# Altium integrated library TI_Logic_Flip-Flop,Latch,Register.IntLib: 2598 symbols (part 87 of 122)
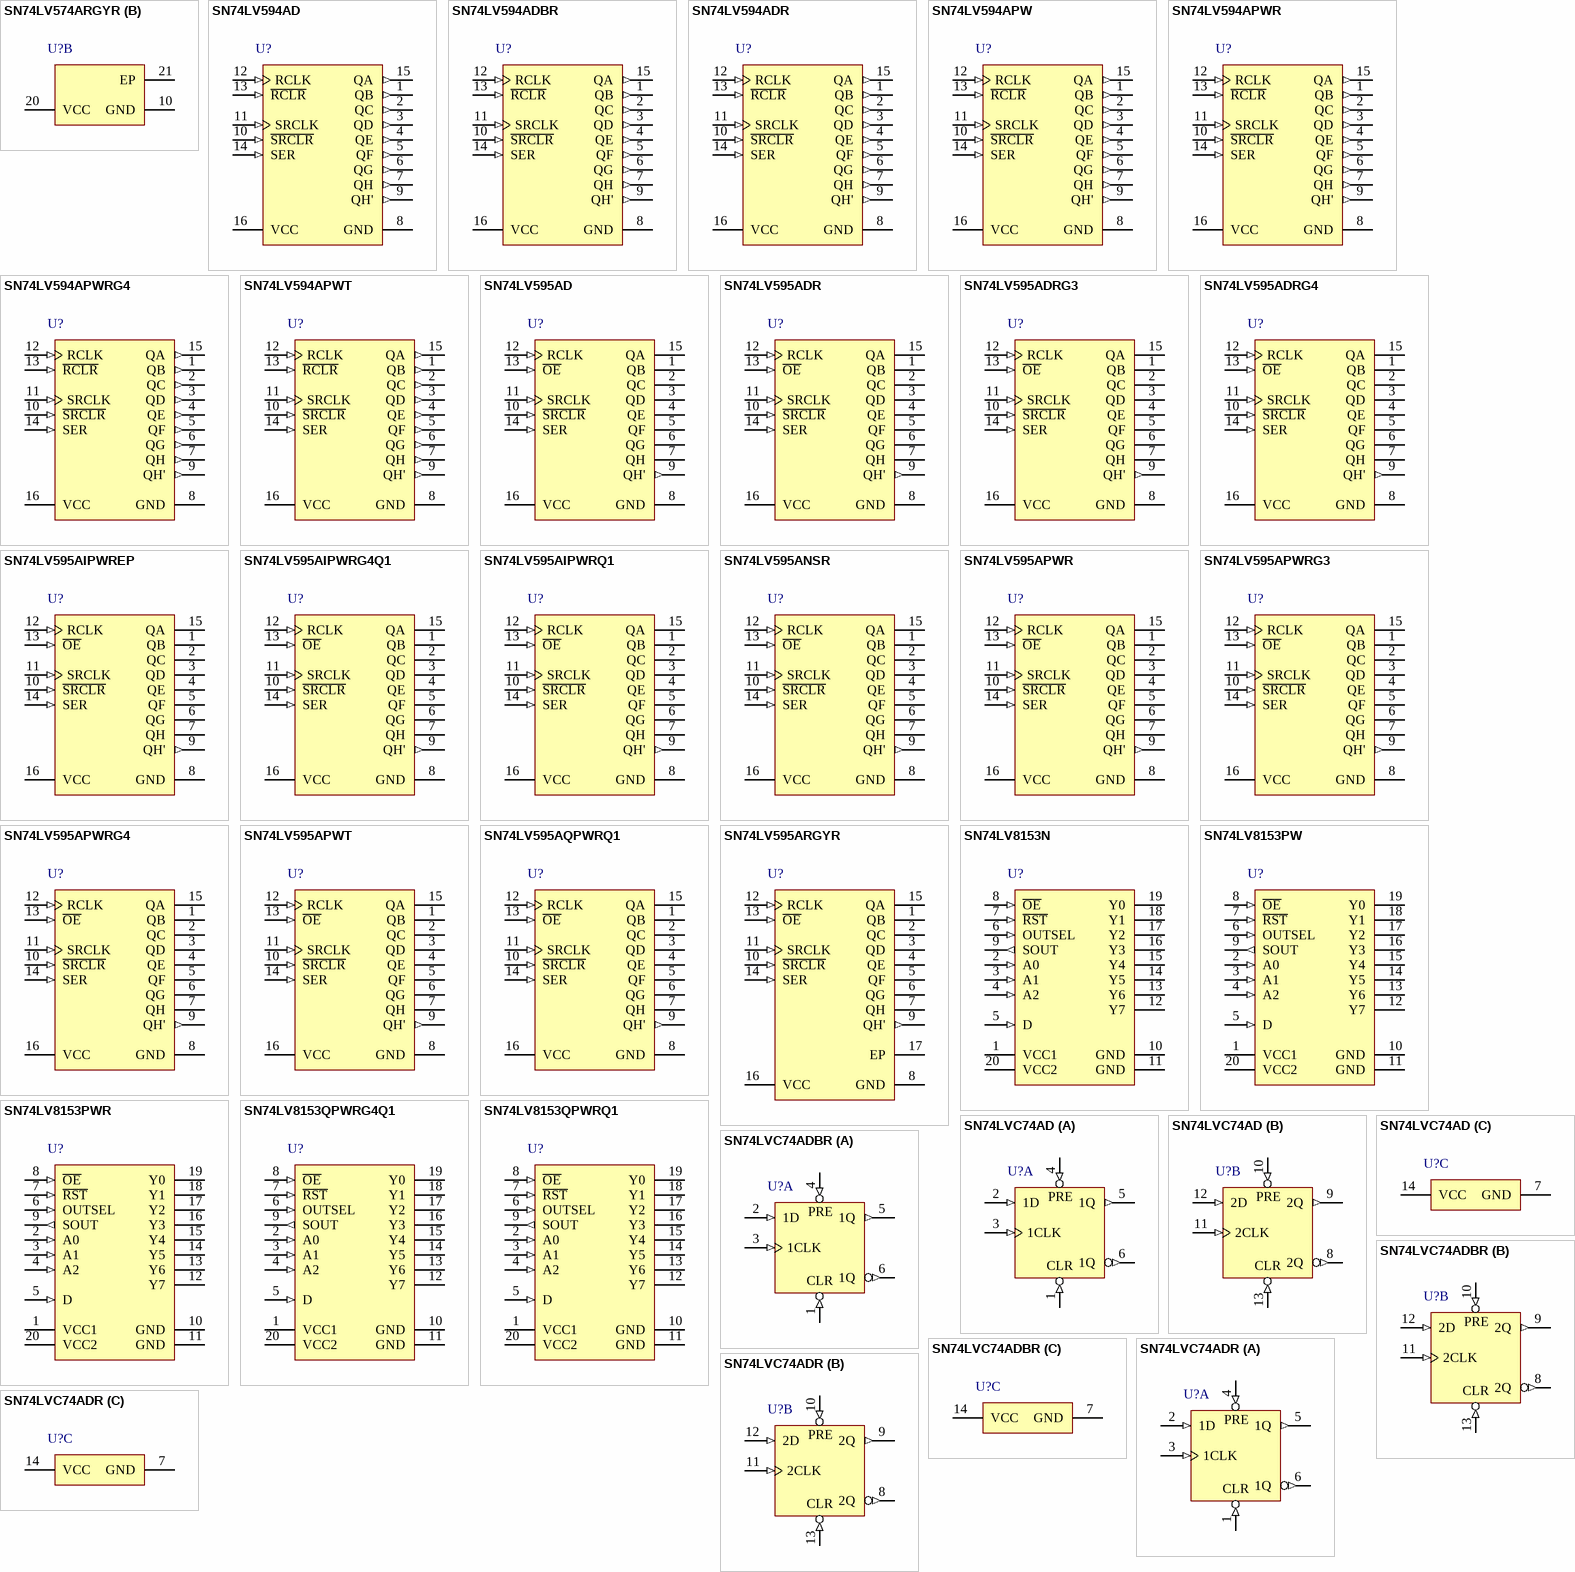
[diagram p225: symbols SN74LV574ARGYR to SN74LVC74ADR]

## SN74LV595AIPWREP
designator U?
Enhanced Product 8-Bit Shift Registers With 3-State Output Registers, PW0016A, LARGE T&R; Generic Part Number: SN74LV595A-EP; Manufacturer: Texas Instruments; PartNumber: SN74LV595AIPWREP; Technology Family: LV-A; VCC(Min)(V): 2; VCC(Max)(V): 5.5; No. of Outputs: 9; Voltage(Nom)(V): 2.5, 3.3, 5; F @ Nom Voltage(Max)(Mhz): 70; ICC @ Nom Voltage(Max)(mA): 0.02; tpd @ Nom Voltage(Max)(ns): 25.5, 18.5, 10.5; Output Drive (IOL/IOH)(Max)(mA): 50/-50; Input Type: CMOS; 3-State Output: Yes; Rating: HiRel Enhanced Product; Bits: 8; DatasheetVersion: SCLS568B; PackageReference: PW0016A; Output Type: CMOS; Operating Temperature Range(C): -40 to 85; Code_JEDEC: MO-153; ComponentLink1Description: Manufacturer URL; ComponentLink1URL: http://www.ti.com/; ComponentLink2Description: Datasheet; ComponentLink2URL: http://www.ti.com/lit/ds/symlink/sn74lv595a-ep.pdf; ComponentLink3Description: Package Specification; ComponentLink3URL: http://www.ti.com/lit/ml/mpds361/mpds361.pdf
footprint PW0016A_N (SOP, 16-Leads, Body 5.1x4.5mm, Pitch 0.65mm, IPC Medium Density)
footprint PW0016A_M (SOP, 16-Leads, Body 5.1x4.5mm, Pitch 0.65mm, IPC Low Density)
footprint PW0016A_L (SOP, 16-Leads, Body 5.1x4.5mm, Pitch 0.65mm, IPC High Density)
pins: 1 QB (hiz) "QB Output", 2 QC (hiz) "QC Output", 3 QD (hiz) "QD Output", 4 QE (hiz) "QE Output", 5 QF (hiz) "QF Output", 6 QG (hiz) "QG Output", 7 QH (hiz) "QH Output", 8 GND (power) "Ground Pin", 9 QH' (out) "QH' Output", 10 ~{SRCLR} (in) "S\R\C\L\R\ Input", 11 SRCLK (in) "SRCLK Input", 12 RCLK (in) "RCLK Input", 13 ~{OE} (in) "Output Enable Pin", 14 SER (in) "SER Input", 15 QA (hiz) "QA Output", 16 VCC (power) "Power Pin"

## SN74LV595AIPWRG4Q1
designator U?
Automotive Catalog 8-Bit Shift Registers With 3-State Output Registers, PW0016A, LARGE T&R; Generic Part Number: SN74LV595A-Q1; Manufacturer: Texas Instruments; PartNumber: SN74LV595AIPWRG4Q1; Technology Family: LV-A; VCC(Min)(V): 2; VCC(Max)(V): 5.5; No. of Outputs: 9; Voltage(Nom)(V): 2.5, 3.3, 5; F @ Nom Voltage(Max)(Mhz): 70; ICC @ Nom Voltage(Max)(mA): 0.02; tpd @ Nom Voltage(Max)(ns): 24.1, 20.2, 14.1; Output Drive (IOL/IOH)(Max)(mA): 50/-50; Input Type: CMOS; 3-State Output: Yes; Bits: 8; DatasheetVersion: SCLS539D; PackageReference: PW0016A; Output Type: CMOS; Rating: Automotive; Operating Temperature Range(C): -40 to 125, -40 to 85; Code_JEDEC: MO-153; ComponentLink1Description: Manufacturer URL; ComponentLink1URL: http://www.ti.com/; ComponentLink2Description: Datasheet; ComponentLink2URL: http://www.ti.com/lit/ds/symlink/sn74lv595a-q1.pdf; ComponentLink3Description: Package Specification; ComponentLink3URL: http://www.ti.com/lit/ml/mpds361/mpds361.pdf
footprint PW0016A_N (SOP, 16-Leads, Body 5.1x4.5mm, Pitch 0.65mm, IPC Medium Density)
footprint PW0016A_M (SOP, 16-Leads, Body 5.1x4.5mm, Pitch 0.65mm, IPC Low Density)
footprint PW0016A_L (SOP, 16-Leads, Body 5.1x4.5mm, Pitch 0.65mm, IPC High Density)
pins: 1 QB (hiz) "QB Output", 2 QC (hiz) "QC Output", 3 QD (hiz) "QD Output", 4 QE (hiz) "QE Output", 5 QF (hiz) "QF Output", 6 QG (hiz) "QG Output", 7 QH (hiz) "QH Output", 8 GND (power) "Ground Pin", 9 QH' (out) "QH' Output", 10 ~{SRCLR} (in) "S\R\C\L\R\ Input", 11 SRCLK (in) "SRCLK Input", 12 RCLK (in) "RCLK Input", 13 ~{OE} (in) "Output Enable Pin", 14 SER (in) "SER Input", 15 QA (hiz) "QA Output", 16 VCC (power) "Power Pin"

## SN74LV595AIPWRQ1
designator U?
Automotive Catalog 8-Bit Shift Registers With 3-State Output Registers, PW0016A, LARGE T&R; Generic Part Number: SN74LV595A-Q1; Manufacturer: Texas Instruments; PartNumber: SN74LV595AIPWRQ1; Technology Family: LV-A; VCC(Min)(V): 2; VCC(Max)(V): 5.5; No. of Outputs: 9; Voltage(Nom)(V): 2.5, 3.3, 5; F @ Nom Voltage(Max)(Mhz): 70; ICC @ Nom Voltage(Max)(mA): 0.02; tpd @ Nom Voltage(Max)(ns): 24.1, 20.2, 14.1; Output Drive (IOL/IOH)(Max)(mA): 50/-50; Input Type: CMOS; 3-State Output: Yes; Bits: 8; DatasheetVersion: SCLS539D; PackageReference: PW0016A; Output Type: CMOS; Rating: Automotive; Operating Temperature Range(C): -40 to 125, -40 to 85; Code_JEDEC: MO-153; ComponentLink1Description: Manufacturer URL; ComponentLink1URL: http://www.ti.com/; ComponentLink2Description: Datasheet; ComponentLink2URL: http://www.ti.com/lit/ds/symlink/sn74lv595a-q1.pdf; ComponentLink3Description: Package Specification; ComponentLink3URL: http://www.ti.com/lit/ml/mpds361/mpds361.pdf
footprint PW0016A_N (SOP, 16-Leads, Body 5.1x4.5mm, Pitch 0.65mm, IPC Medium Density)
footprint PW0016A_M (SOP, 16-Leads, Body 5.1x4.5mm, Pitch 0.65mm, IPC Low Density)
footprint PW0016A_L (SOP, 16-Leads, Body 5.1x4.5mm, Pitch 0.65mm, IPC High Density)
pins: 1 QB (hiz) "QB Output", 2 QC (hiz) "QC Output", 3 QD (hiz) "QD Output", 4 QE (hiz) "QE Output", 5 QF (hiz) "QF Output", 6 QG (hiz) "QG Output", 7 QH (hiz) "QH Output", 8 GND (power) "Ground Pin", 9 QH' (out) "QH' Output", 10 ~{SRCLR} (in) "S\R\C\L\R\ Input", 11 SRCLK (in) "SRCLK Input", 12 RCLK (in) "RCLK Input", 13 ~{OE} (in) "Output Enable Pin", 14 SER (in) "SER Input", 15 QA (hiz) "QA Output", 16 VCC (power) "Power Pin"

## SN74LV595ANSR
designator U?
8-Bit Shift Registers With 3-State Output Registers, NS0016A, LARGE T&R; Generic Part Number: SN74LV595A; Manufacturer: Texas Instruments; PartNumber: SN74LV595ANSR; Technology Family: LV-A; VCC(Min)(V): 2; VCC(Max)(V): 5.5; No. of Outputs: 9; Voltage(Nom)(V): 2.5, 3.3, 5; F @ Nom Voltage(Max)(Mhz): 70; ICC @ Nom Voltage(Max)(mA): 0.02; tpd @ Nom Voltage(Max)(ns): 25.5, 18.5, 10.5; Output Drive (IOL/IOH)(Max)(mA): 50/-50; Input Type: CMOS; 3-State Output: Yes; Rating: Catalog; Bits: 8; DatasheetVersion: SCLS414P; PackageReference: NS0016A; Output Type: CMOS; Operating Temperature Range(C): -40 to 125, -40 to 85; ComponentLink1Description: Manufacturer URL; ComponentLink1URL: http://www.ti.com/; ComponentLink2Description: Datasheet; ComponentLink2URL: http://www.ti.com/lit/ds/symlink/sn74lv595a.pdf; ComponentLink3Description: Package Specification; ComponentLink3URL: http://www.ti.com/lit/ml/msop002a/msop002a.pdf
footprint NS0016A_N (SOIC,16-Leads,Body 10.5x5.6mm,Pitch 1.27mm,IPC Medium Density)
footprint NS0016A_M (SOIC,16-Leads,Body 10.5x5.6mm,Pitch 1.27mm,IPC Low Density)
footprint NS0016A_L (SOIC,16-Leads,Body 10.5x5.6mm,Pitch 1.27mm,IPC High Density)
pins: 1 QB (hiz) "QB Output", 2 QC (hiz) "QC Output", 3 QD (hiz) "QD Output", 4 QE (hiz) "QE Output", 5 QF (hiz) "QF Output", 6 QG (hiz) "QG Output", 7 QH (hiz) "QH Output", 8 GND (power) "Ground Pin", 9 QH' (out) "QH' Output", 10 ~{SRCLR} (in) "S\R\C\L\R\ Input", 11 SRCLK (in) "SRCLK Input", 12 RCLK (in) "RCLK Input", 13 ~{OE} (in) "Output Enable Pin", 14 SER (in) "SER Input", 15 QA (hiz) "QA Output", 16 VCC (power) "Power Pin"

## SN74LV595APWR
designator U?
8-Bit Shift Registers With 3-State Output Registers, PW0016A, LARGE T&R; Generic Part Number: SN74LV595A; Manufacturer: Texas Instruments; PartNumber: SN74LV595APWR; Technology Family: LV-A; VCC(Min)(V): 2; VCC(Max)(V): 5.5; No. of Outputs: 9; Voltage(Nom)(V): 2.5, 3.3, 5; F @ Nom Voltage(Max)(Mhz): 70; ICC @ Nom Voltage(Max)(mA): 0.02; tpd @ Nom Voltage(Max)(ns): 25.5, 18.5, 10.5; Output Drive (IOL/IOH)(Max)(mA): 50/-50; Input Type: CMOS; 3-State Output: Yes; Rating: Catalog; Bits: 8; DatasheetVersion: SCLS414P; PackageReference: PW0016A; Output Type: CMOS; Operating Temperature Range(C): -40 to 125, -40 to 85; Code_JEDEC: MO-153; ComponentLink1Description: Manufacturer URL; ComponentLink1URL: http://www.ti.com/; ComponentLink2Description: Datasheet; ComponentLink2URL: http://www.ti.com/lit/ds/symlink/sn74lv595a.pdf; ComponentLink3Description: Package Specification; ComponentLink3URL: http://www.ti.com/lit/ml/mpds361/mpds361.pdf
footprint PW0016A_N (SOP, 16-Leads, Body 5.1x4.5mm, Pitch 0.65mm, IPC Medium Density)
footprint PW0016A_M (SOP, 16-Leads, Body 5.1x4.5mm, Pitch 0.65mm, IPC Low Density)
footprint PW0016A_L (SOP, 16-Leads, Body 5.1x4.5mm, Pitch 0.65mm, IPC High Density)
pins: 1 QB (hiz) "QB Output", 2 QC (hiz) "QC Output", 3 QD (hiz) "QD Output", 4 QE (hiz) "QE Output", 5 QF (hiz) "QF Output", 6 QG (hiz) "QG Output", 7 QH (hiz) "QH Output", 8 GND (power) "Ground Pin", 9 QH' (out) "QH' Output", 10 ~{SRCLR} (in) "S\R\C\L\R\ Input", 11 SRCLK (in) "SRCLK Input", 12 RCLK (in) "RCLK Input", 13 ~{OE} (in) "Output Enable Pin", 14 SER (in) "SER Input", 15 QA (hiz) "QA Output", 16 VCC (power) "Power Pin"

## SN74LV595APWRG3
designator U?
8-Bit Shift Registers With 3-State Output Registers, PW0016A, LARGE T&R; Generic Part Number: SN74LV595A; Manufacturer: Texas Instruments; PartNumber: SN74LV595APWRG3; Technology Family: LV-A; VCC(Min)(V): 2; VCC(Max)(V): 5.5; No. of Outputs: 9; Voltage(Nom)(V): 2.5, 3.3, 5; F @ Nom Voltage(Max)(Mhz): 70; ICC @ Nom Voltage(Max)(mA): 0.02; tpd @ Nom Voltage(Max)(ns): 25.5, 18.5, 10.5; Output Drive (IOL/IOH)(Max)(mA): 50/-50; Input Type: CMOS; 3-State Output: Yes; Rating: Catalog; Bits: 8; DatasheetVersion: SCLS414P; PackageReference: PW0016A; Output Type: CMOS; Operating Temperature Range(C): -40 to 125, -40 to 85; Code_JEDEC: MO-153; ComponentLink1Description: Manufacturer URL; ComponentLink1URL: http://www.ti.com/; ComponentLink2Description: Datasheet; ComponentLink2URL: http://www.ti.com/lit/ds/symlink/sn74lv595a.pdf; ComponentLink3Description: Package Specification; ComponentLink3URL: http://www.ti.com/lit/ml/mpds361/mpds361.pdf
footprint PW0016A_N (SOP, 16-Leads, Body 5.1x4.5mm, Pitch 0.65mm, IPC Medium Density)
footprint PW0016A_M (SOP, 16-Leads, Body 5.1x4.5mm, Pitch 0.65mm, IPC Low Density)
footprint PW0016A_L (SOP, 16-Leads, Body 5.1x4.5mm, Pitch 0.65mm, IPC High Density)
pins: 1 QB (hiz) "QB Output", 2 QC (hiz) "QC Output", 3 QD (hiz) "QD Output", 4 QE (hiz) "QE Output", 5 QF (hiz) "QF Output", 6 QG (hiz) "QG Output", 7 QH (hiz) "QH Output", 8 GND (power) "Ground Pin", 9 QH' (out) "QH' Output", 10 ~{SRCLR} (in) "S\R\C\L\R\ Input", 11 SRCLK (in) "SRCLK Input", 12 RCLK (in) "RCLK Input", 13 ~{OE} (in) "Output Enable Pin", 14 SER (in) "SER Input", 15 QA (hiz) "QA Output", 16 VCC (power) "Power Pin"

## SN74LV595APWRG4
designator U?
8-Bit Shift Registers With 3-State Output Registers, PW0016A, LARGE T&R; Generic Part Number: SN74LV595A; Manufacturer: Texas Instruments; PartNumber: SN74LV595APWRG4; Technology Family: LV-A; VCC(Min)(V): 2; VCC(Max)(V): 5.5; No. of Outputs: 9; Voltage(Nom)(V): 2.5, 3.3, 5; F @ Nom Voltage(Max)(Mhz): 70; ICC @ Nom Voltage(Max)(mA): 0.02; tpd @ Nom Voltage(Max)(ns): 25.5, 18.5, 10.5; Output Drive (IOL/IOH)(Max)(mA): 50/-50; Input Type: CMOS; 3-State Output: Yes; Rating: Catalog; Bits: 8; DatasheetVersion: SCLS414P; PackageReference: PW0016A; Output Type: CMOS; Operating Temperature Range(C): -40 to 125, -40 to 85; Code_JEDEC: MO-153; ComponentLink1Description: Manufacturer URL; ComponentLink1URL: http://www.ti.com/; ComponentLink2Description: Datasheet; ComponentLink2URL: http://www.ti.com/lit/ds/symlink/sn74lv595a.pdf; ComponentLink3Description: Package Specification; ComponentLink3URL: http://www.ti.com/lit/ml/mpds361/mpds361.pdf
footprint PW0016A_N (SOP, 16-Leads, Body 5.1x4.5mm, Pitch 0.65mm, IPC Medium Density)
footprint PW0016A_M (SOP, 16-Leads, Body 5.1x4.5mm, Pitch 0.65mm, IPC Low Density)
footprint PW0016A_L (SOP, 16-Leads, Body 5.1x4.5mm, Pitch 0.65mm, IPC High Density)
pins: 1 QB (hiz) "QB Output", 2 QC (hiz) "QC Output", 3 QD (hiz) "QD Output", 4 QE (hiz) "QE Output", 5 QF (hiz) "QF Output", 6 QG (hiz) "QG Output", 7 QH (hiz) "QH Output", 8 GND (power) "Ground Pin", 9 QH' (out) "QH' Output", 10 ~{SRCLR} (in) "S\R\C\L\R\ Input", 11 SRCLK (in) "SRCLK Input", 12 RCLK (in) "RCLK Input", 13 ~{OE} (in) "Output Enable Pin", 14 SER (in) "SER Input", 15 QA (hiz) "QA Output", 16 VCC (power) "Power Pin"

## SN74LV595APWT
designator U?
8-Bit Shift Registers With 3-State Output Registers, PW0016A, SMALL T&R; Generic Part Number: SN74LV595A; Manufacturer: Texas Instruments; PartNumber: SN74LV595APWT; Technology Family: LV-A; VCC(Min)(V): 2; VCC(Max)(V): 5.5; No. of Outputs: 9; Voltage(Nom)(V): 2.5, 3.3, 5; F @ Nom Voltage(Max)(Mhz): 70; ICC @ Nom Voltage(Max)(mA): 0.02; tpd @ Nom Voltage(Max)(ns): 25.5, 18.5, 10.5; Output Drive (IOL/IOH)(Max)(mA): 50/-50; Input Type: CMOS; 3-State Output: Yes; Rating: Catalog; Bits: 8; DatasheetVersion: SCLS414P; PackageReference: PW0016A; Output Type: CMOS; Operating Temperature Range(C): -40 to 125, -40 to 85; Code_JEDEC: MO-153; ComponentLink1Description: Manufacturer URL; ComponentLink1URL: http://www.ti.com/; ComponentLink2Description: Datasheet; ComponentLink2URL: http://www.ti.com/lit/ds/symlink/sn74lv595a.pdf; ComponentLink3Description: Package Specification; ComponentLink3URL: http://www.ti.com/lit/ml/mpds361/mpds361.pdf
footprint PW0016A_N (SOP, 16-Leads, Body 5.1x4.5mm, Pitch 0.65mm, IPC Medium Density)
footprint PW0016A_M (SOP, 16-Leads, Body 5.1x4.5mm, Pitch 0.65mm, IPC Low Density)
footprint PW0016A_L (SOP, 16-Leads, Body 5.1x4.5mm, Pitch 0.65mm, IPC High Density)
pins: 1 QB (hiz) "QB Output", 2 QC (hiz) "QC Output", 3 QD (hiz) "QD Output", 4 QE (hiz) "QE Output", 5 QF (hiz) "QF Output", 6 QG (hiz) "QG Output", 7 QH (hiz) "QH Output", 8 GND (power) "Ground Pin", 9 QH' (out) "QH' Output", 10 ~{SRCLR} (in) "S\R\C\L\R\ Input", 11 SRCLK (in) "SRCLK Input", 12 RCLK (in) "RCLK Input", 13 ~{OE} (in) "Output Enable Pin", 14 SER (in) "SER Input", 15 QA (hiz) "QA Output", 16 VCC (power) "Power Pin"

## SN74LV595AQPWRQ1
designator U?
Automotive Catalog 8-Bit Shift Registers With 3-State Output Registers, PW0016A, LARGE T&R; Generic Part Number: SN74LV595A-Q1; Manufacturer: Texas Instruments; PartNumber: SN74LV595AQPWRQ1; Technology Family: LV-A; VCC(Min)(V): 2; VCC(Max)(V): 5.5; No. of Outputs: 9; Voltage(Nom)(V): 2.5, 3.3, 5; F @ Nom Voltage(Max)(Mhz): 70; ICC @ Nom Voltage(Max)(mA): 0.02; tpd @ Nom Voltage(Max)(ns): 24.1, 20.2, 14.1; Output Drive (IOL/IOH)(Max)(mA): 50/-50; Input Type: CMOS; 3-State Output: Yes; Bits: 8; DatasheetVersion: SCLS539D; PackageReference: PW0016A; Output Type: CMOS; Rating: Automotive; Operating Temperature Range(C): -40 to 125, -40 to 85; Code_JEDEC: MO-153; ComponentLink1Description: Manufacturer URL; ComponentLink1URL: http://www.ti.com/; ComponentLink2Description: Datasheet; ComponentLink2URL: http://www.ti.com/lit/ds/symlink/sn74lv595a-q1.pdf; ComponentLink3Description: Package Specification; ComponentLink3URL: http://www.ti.com/lit/ml/mpds361/mpds361.pdf
footprint PW0016A_N (SOP, 16-Leads, Body 5.1x4.5mm, Pitch 0.65mm, IPC Medium Density)
footprint PW0016A_M (SOP, 16-Leads, Body 5.1x4.5mm, Pitch 0.65mm, IPC Low Density)
footprint PW0016A_L (SOP, 16-Leads, Body 5.1x4.5mm, Pitch 0.65mm, IPC High Density)
pins: 1 QB (hiz) "QB Output", 2 QC (hiz) "QC Output", 3 QD (hiz) "QD Output", 4 QE (hiz) "QE Output", 5 QF (hiz) "QF Output", 6 QG (hiz) "QG Output", 7 QH (hiz) "QH Output", 8 GND (power) "Ground Pin", 9 QH' (out) "QH' Output", 10 ~{SRCLR} (in) "S\R\C\L\R\ Input", 11 SRCLK (in) "SRCLK Input", 12 RCLK (in) "RCLK Input", 13 ~{OE} (in) "Output Enable Pin", 14 SER (in) "SER Input", 15 QA (hiz) "QA Output", 16 VCC (power) "Power Pin"

## SN74LV595ARGYR
designator U?
8-Bit Shift Registers With 3-State Output Registers, RGY0016A, LARGE T&R; Generic Part Number: SN74LV595A; Manufacturer: Texas Instruments; PartNumber: SN74LV595ARGYR; Technology Family: LV-A; VCC(Min)(V): 2; VCC(Max)(V): 5.5; No. of Outputs: 9; Voltage(Nom)(V): 2.5, 3.3, 5; F @ Nom Voltage(Max)(Mhz): 70; ICC @ Nom Voltage(Max)(mA): 0.02; tpd @ Nom Voltage(Max)(ns): 25.5, 18.5, 10.5; Output Drive (IOL/IOH)(Max)(mA): 50/-50; Input Type: CMOS; 3-State Output: Yes; Rating: Catalog; DatasheetVersion: SCLS414P; PackageReference: RGY0016A; Output Type: CMOS; Operating Temperature Range(C): -40 to 125, -40 to 85; Code_JEDEC: MO-241; ComponentLink1Description: Manufacturer URL; ComponentLink1URL: http://www.ti.com/; ComponentLink2Description: Datasheet; ComponentLink2URL: http://www.ti.com/lit/ds/symlink/sn74lv595a.pdf; ComponentLink3Description: Package Specification; ComponentLink3URL: http://www.ti.com/lit/ml/mpqf115g/mpqf115g.pdf
footprint RGY0016A_V (QFN, 16-Leads, Body 4x3.5mm, Thermal Pad 2.55x2.05mm, TI Recommend)
pins: 1 QB (hiz) "QB Output", 2 QC (hiz) "QC Output", 3 QD (hiz) "QD Output", 4 QE (hiz) "QE Output", 5 QF (hiz) "QF Output", 6 QG (hiz) "QG Output", 7 QH (hiz) "QH Output", 8 GND (power) "Ground Pin", 9 QH' (out) "QH' Output", 10 ~{SRCLR} (in) "S\R\C\L\R\ Input", 11 SRCLK (in) "SRCLK Input", 12 RCLK (in) "RCLK Input", 13 ~{OE} (in) "Output Enable Pin", 14 SER (in) "SER Input", 15 QA (hiz) "QA Output", 16 VCC (power) "Power Pin", 17 EP

## SN74LV8153N
designator U?
Serial-To-Parallel Interface, N0020A, TUBE; Generic Part Number: SN74LV8153; Manufacturer: Texas Instruments; PartNumber: SN74LV8153N; Technology Family: LV-A; VCC(Min)(V): 3; VCC(Max)(V): 5.5; No. of Outputs: 9; Voltage(Nom)(V): 3.3, 5; F @ Nom Voltage(Max)(Mhz): 70; ICC @ Nom Voltage(Max)(mA): 20; tpd @ Nom Voltage(Max)(ns): 200, 150; Output Drive (IOL/IOH)(Max)(mA): 40/-24; Input Type: CMOS; 3-State Output: No; Rating: Catalog; Bits: 8; DatasheetVersion: SCLS555; PackageReference: N0020A; Output Type: CMOS; Operating Temperature Range(C): -40 to 85; Code_JEDEC: MS-001; ComponentLink1Description: Manufacturer URL; ComponentLink1URL: http://www.ti.com/; ComponentLink2Description: Datasheet; ComponentLink2URL: http://www.ti.com/lit/ds/symlink/sn74lv8153.pdf; ComponentLink3Description: Package Specification; ComponentLink3URL: http://www.ti.com/lit/ml/mpdi002c/mpdi002c.pdf
footprint N0020A (DIP, 20-Leads, Body 26.9x6.6mm, Pitch 2.54mm)
pins: 1 VCC1 (power) "Power-supply pin (all inputs and outputs except for Y0-Y7)", 2 A0 (in) "The address pins are used to program the address of the device and allow up devices to share the same bus.", 3 A1 (in) "The address pins are used to program the address of the device and allow up devices to share the same bus.", 4 A2 (in) "The address pins are used to program the address of the device and allow up devices to share the same bus.", 5 D (in) "Serial data input", 6 OUTSEL (in) "Choose between open-collector and push-pull type outputs (Y0-Y7).", 7 ~{RST} (in) "Initialize register status", 8 ~{OE} (in) "Force Y0-Y7 to Hi-Z", 9 SOUT (out) "Outputs a pulse when latch data is changed. Supplied by VCC1.", 10 GND (power), 11 GND (power), 12 Y7 (hiz) "Push-pull or open collector parallel data outputs. Supplied by VCC2.", 13 Y6 (hiz) "Push-pull or open collector parallel data outputs. Supplied by VCC2.", 14 Y5 (hiz) "Push-pull or open collector parallel data outputs. Supplied by VCC2.", 15 Y4 (hiz) "Push-pull or open collector parallel data outputs. Supplied by VCC2.", 16 Y3 (hiz) "Push-pull or open collector parallel data outputs. Supplied by VCC2.", 17 Y2 (hiz) "Push-pull or open collector parallel data outputs. Supplied by VCC2.", 18 Y1 (hiz) "Push-pull or open collector parallel data outputs. Supplied by VCC2.", 19 Y0 (hiz) "Push-pull or open collector parallel data outputs. Supplied by VCC2.", 20 VCC2 (power) "Power-supply pin for outputs (Y0-Y7). VCC2 can range from 3 V to 13.2 V."

## SN74LV8153PW
designator U?
Serial-To-Parallel Interface, PW0020A, TUBE; Generic Part Number: SN74LV8153; Manufacturer: Texas Instruments; PartNumber: SN74LV8153PW; Technology Family: LV-A; VCC(Min)(V): 3; VCC(Max)(V): 5.5; No. of Outputs: 9; Voltage(Nom)(V): 3.3, 5; F @ Nom Voltage(Max)(Mhz): 70; ICC @ Nom Voltage(Max)(mA): 20; tpd @ Nom Voltage(Max)(ns): 200, 150; Output Drive (IOL/IOH)(Max)(mA): 40/-24; Input Type: CMOS; 3-State Output: No; Rating: Catalog; DatasheetVersion: SCLS555; PackageReference: PW0020A; Output Type: CMOS; Operating Temperature Range(C): -40 to 85; Code_JEDEC: MO-153; ComponentLink1Description: Manufacturer URL; ComponentLink1URL: http://www.ti.com/; ComponentLink2Description: Datasheet; ComponentLink2URL: http://www.ti.com/lit/ds/symlink/sn74lv8153.pdf; ComponentLink3Description: Package Specification; ComponentLink3URL: http://www.ti.com/lit/ml/mpds362/mpds362.pdf
footprint PW0020A_N (SOP, 20-Leads, Body 6.6x4.5mm, Pitch 0.65mm, IPC Medium Density)
footprint PW0020A_M (SOP, 20-Leads, Body 6.6x4.5mm, Pitch 0.65mm, IPC Low Density)
footprint PW0020A_L (SOP, 20-Leads, Body 6.6x4.5mm, Pitch 0.65mm, IPC High Density)
pins: 1 VCC1 (power) "Power-supply pin (all inputs and outputs except for Y0-Y7)", 2 A0 (in) "The address pins are used to program the address of the device and allow up devices to share the same bus.", 3 A1 (in) "The address pins are used to program the address of the device and allow up devices to share the same bus.", 4 A2 (in) "The address pins are used to program the address of the device and allow up devices to share the same bus.", 5 D (in) "Serial data input", 6 OUTSEL (in) "Choose between open-collector and push-pull type outputs (Y0-Y7).", 7 ~{RST} (in) "Initialize register status", 8 ~{OE} (in) "Force Y0-Y7 to Hi-Z", 9 SOUT (out) "Outputs a pulse when latch data is changed. Supplied by VCC1.", 10 GND (power), 11 GND (power), 12 Y7 (hiz) "Push-pull or open collector parallel data outputs. Supplied by VCC2.", 13 Y6 (hiz) "Push-pull or open collector parallel data outputs. Supplied by VCC2.", 14 Y5 (hiz) "Push-pull or open collector parallel data outputs. Supplied by VCC2.", 15 Y4 (hiz) "Push-pull or open collector parallel data outputs. Supplied by VCC2.", 16 Y3 (hiz) "Push-pull or open collector parallel data outputs. Supplied by VCC2.", 17 Y2 (hiz) "Push-pull or open collector parallel data outputs. Supplied by VCC2.", 18 Y1 (hiz) "Push-pull or open collector parallel data outputs. Supplied by VCC2.", 19 Y0 (hiz) "Push-pull or open collector parallel data outputs. Supplied by VCC2.", 20 VCC2 (power) "Power-supply pin for outputs (Y0-Y7). VCC2 can range from 3 V to 13.2 V."

## SN74LV8153PWR
designator U?
Serial-To-Parallel Interface, PW0020A, LARGE T&R; Generic Part Number: SN74LV8153; Manufacturer: Texas Instruments; PartNumber: SN74LV8153PWR; Technology Family: LV-A; VCC(Min)(V): 3; VCC(Max)(V): 5.5; No. of Outputs: 9; Voltage(Nom)(V): 3.3, 5; F @ Nom Voltage(Max)(Mhz): 70; ICC @ Nom Voltage(Max)(mA): 20; tpd @ Nom Voltage(Max)(ns): 200, 150; Output Drive (IOL/IOH)(Max)(mA): 40/-24; Input Type: CMOS; 3-State Output: No; Rating: Catalog; DatasheetVersion: SCLS555; PackageReference: PW0020A; Output Type: CMOS; Operating Temperature Range(C): -40 to 85; Code_JEDEC: MO-153; ComponentLink1Description: Manufacturer URL; ComponentLink1URL: http://www.ti.com/; ComponentLink2Description: Datasheet; ComponentLink2URL: http://www.ti.com/lit/ds/symlink/sn74lv8153.pdf; ComponentLink3Description: Package Specification; ComponentLink3URL: http://www.ti.com/lit/ml/mpds362/mpds362.pdf
footprint PW0020A_N (SOP, 20-Leads, Body 6.6x4.5mm, Pitch 0.65mm, IPC Medium Density)
footprint PW0020A_M (SOP, 20-Leads, Body 6.6x4.5mm, Pitch 0.65mm, IPC Low Density)
footprint PW0020A_L (SOP, 20-Leads, Body 6.6x4.5mm, Pitch 0.65mm, IPC High Density)
pins: 1 VCC1 (power) "Power-supply pin (all inputs and outputs except for Y0-Y7)", 2 A0 (in) "The address pins are used to program the address of the device and allow up devices to share the same bus.", 3 A1 (in) "The address pins are used to program the address of the device and allow up devices to share the same bus.", 4 A2 (in) "The address pins are used to program the address of the device and allow up devices to share the same bus.", 5 D (in) "Serial data input", 6 OUTSEL (in) "Choose between open-collector and push-pull type outputs (Y0-Y7).", 7 ~{RST} (in) "Initialize register status", 8 ~{OE} (in) "Force Y0-Y7 to Hi-Z", 9 SOUT (out) "Outputs a pulse when latch data is changed. Supplied by VCC1.", 10 GND (power), 11 GND (power), 12 Y7 (hiz) "Push-pull or open collector parallel data outputs. Supplied by VCC2.", 13 Y6 (hiz) "Push-pull or open collector parallel data outputs. Supplied by VCC2.", 14 Y5 (hiz) "Push-pull or open collector parallel data outputs. Supplied by VCC2.", 15 Y4 (hiz) "Push-pull or open collector parallel data outputs. Supplied by VCC2.", 16 Y3 (hiz) "Push-pull or open collector parallel data outputs. Supplied by VCC2.", 17 Y2 (hiz) "Push-pull or open collector parallel data outputs. Supplied by VCC2.", 18 Y1 (hiz) "Push-pull or open collector parallel data outputs. Supplied by VCC2.", 19 Y0 (hiz) "Push-pull or open collector parallel data outputs. Supplied by VCC2.", 20 VCC2 (power) "Power-supply pin for outputs (Y0-Y7). VCC2 can range from 3 V to 13.2 V."

## SN74LV8153QPWRG4Q1
designator U?
Automotive Catalog Serial-To-Parallel Interface, PW0020A, LARGE T&R; Generic Part Number: SN74LV8153-Q1; Manufacturer: Texas Instruments; PartNumber: SN74LV8153QPWRG4Q1; Technology Family: LV-A; VCC(Min)(V): 3; VCC(Max)(V): 5.5; No. of Outputs: 9; Voltage(Nom)(V): 3.3, 5; F @ Nom Voltage(Max)(Mhz): 70; ICC @ Nom Voltage(Max)(mA): 20; tpd @ Nom Voltage(Max)(ns): 220, 200; Output Drive (IOL/IOH)(Max)(mA): 40/-24; Input Type: CMOS; 3-State Output: No; DatasheetVersion: SCLS591A; PackageReference: PW0020A; Output Type: CMOS; Rating: Automotive; Operating Temperature Range(C): -40 to 125; Code_JEDEC: MO-153; ComponentLink1Description: Manufacturer URL; ComponentLink1URL: http://www.ti.com/; ComponentLink2Description: Datasheet; ComponentLink2URL: http://www.ti.com/lit/ds/symlink/sn74lv8153-q1.pdf; ComponentLink3Description: Package Specification; ComponentLink3URL: http://www.ti.com/lit/ml/mpds362/mpds362.pdf
footprint PW0020A_N (SOP, 20-Leads, Body 6.6x4.5mm, Pitch 0.65mm, IPC Medium Density)
footprint PW0020A_M (SOP, 20-Leads, Body 6.6x4.5mm, Pitch 0.65mm, IPC Low Density)
footprint PW0020A_L (SOP, 20-Leads, Body 6.6x4.5mm, Pitch 0.65mm, IPC High Density)
pins: 1 VCC1 (power) "Power-supply pin (all inputs and outputs except for Y0-Y7)", 2 A0 (in) "The address pins are used to program the address of the device and allow up devices to share the same bus.", 3 A1 (in) "The address pins are used to program the address of the device and allow up devices to share the same bus.", 4 A2 (in) "The address pins are used to program the address of the device and allow up devices to share the same bus.", 5 D (in) "Serial data input", 6 OUTSEL (in) "Choose between open-collector and push-pull type outputs (Y0-Y7).", 7 ~{RST} (in) "Initialize register status", 8 ~{OE} (in) "Force Y0-Y7 to Hi-Z", 9 SOUT (out) "Outputs a pulse when latch data is changed. Supplied by VCC1.", 10 GND (power), 11 GND (power), 12 Y7 (hiz) "Push-pull or open collector parallel data outputs. Supplied by VCC2.", 13 Y6 (hiz) "Push-pull or open collector parallel data outputs. Supplied by VCC2.", 14 Y5 (hiz) "Push-pull or open collector parallel data outputs. Supplied by VCC2.", 15 Y4 (hiz) "Push-pull or open collector parallel data outputs. Supplied by VCC2.", 16 Y3 (hiz) "Push-pull or open collector parallel data outputs. Supplied by VCC2.", 17 Y2 (hiz) "Push-pull or open collector parallel data outputs. Supplied by VCC2.", 18 Y1 (hiz) "Push-pull or open collector parallel data outputs. Supplied by VCC2.", 19 Y0 (hiz) "Push-pull or open collector parallel data outputs. Supplied by VCC2.", 20 VCC2 (power) "Power-supply pin for outputs (Y0-Y7). VCC2 can range from 3 V to 13.2 V."

## SN74LV8153QPWRQ1
designator U?
Automotive Catalog Serial-To-Parallel Interface, PW0020A, LARGE T&R; Generic Part Number: SN74LV8153-Q1; Manufacturer: Texas Instruments; PartNumber: SN74LV8153QPWRQ1; Technology Family: LV-A; VCC(Min)(V): 3; VCC(Max)(V): 5.5; No. of Outputs: 9; Voltage(Nom)(V): 3.3, 5; F @ Nom Voltage(Max)(Mhz): 70; ICC @ Nom Voltage(Max)(mA): 20; tpd @ Nom Voltage(Max)(ns): 220, 200; Output Drive (IOL/IOH)(Max)(mA): 40/-24; Input Type: CMOS; 3-State Output: No; DatasheetVersion: SCLS591A; PackageReference: PW0020A; Output Type: CMOS; Rating: Automotive; Operating Temperature Range(C): -40 to 125; Code_JEDEC: MO-153; ComponentLink1Description: Manufacturer URL; ComponentLink1URL: http://www.ti.com/; ComponentLink2Description: Datasheet; ComponentLink2URL: http://www.ti.com/lit/ds/symlink/sn74lv8153-q1.pdf; ComponentLink3Description: Package Specification; ComponentLink3URL: http://www.ti.com/lit/ml/mpds362/mpds362.pdf
footprint PW0020A_N (SOP, 20-Leads, Body 6.6x4.5mm, Pitch 0.65mm, IPC Medium Density)
footprint PW0020A_M (SOP, 20-Leads, Body 6.6x4.5mm, Pitch 0.65mm, IPC Low Density)
footprint PW0020A_L (SOP, 20-Leads, Body 6.6x4.5mm, Pitch 0.65mm, IPC High Density)
pins: 1 VCC1 (power) "Power-supply pin (all inputs and outputs except for Y0-Y7)", 2 A0 (in) "The address pins are used to program the address of the device and allow up devices to share the same bus.", 3 A1 (in) "The address pins are used to program the address of the device and allow up devices to share the same bus.", 4 A2 (in) "The address pins are used to program the address of the device and allow up devices to share the same bus.", 5 D (in) "Serial data input", 6 OUTSEL (in) "Choose between open-collector and push-pull type outputs (Y0-Y7).", 7 ~{RST} (in) "Initialize register status", 8 ~{OE} (in) "Force Y0-Y7 to Hi-Z", 9 SOUT (out) "Outputs a pulse when latch data is changed. Supplied by VCC1.", 10 GND (power), 11 GND (power), 12 Y7 (hiz) "Push-pull or open collector parallel data outputs. Supplied by VCC2.", 13 Y6 (hiz) "Push-pull or open collector parallel data outputs. Supplied by VCC2.", 14 Y5 (hiz) "Push-pull or open collector parallel data outputs. Supplied by VCC2.", 15 Y4 (hiz) "Push-pull or open collector parallel data outputs. Supplied by VCC2.", 16 Y3 (hiz) "Push-pull or open collector parallel data outputs. Supplied by VCC2.", 17 Y2 (hiz) "Push-pull or open collector parallel data outputs. Supplied by VCC2.", 18 Y1 (hiz) "Push-pull or open collector parallel data outputs. Supplied by VCC2.", 19 Y0 (hiz) "Push-pull or open collector parallel data outputs. Supplied by VCC2.", 20 VCC2 (power) "Power-supply pin for outputs (Y0-Y7). VCC2 can range from 3 V to 13.2 V."

## SN74LVC74AD
designator U?
Dual Positive-Edge-Triggered D-Type Flip-Flops With Clear And Preset, D0014A, TUBE; Generic Part Number: SN74LVC74A; Manufacturer: Texas Instruments; PartNumber: SN74LVC74AD; VCC(Min)(V): 1.65; VCC(Max)(V): 3.6; Output Type: CMOS; ICC @ Nom Voltage(Max)(mA): 0.01; Bits(#): 2; F @ Nom Voltage(Max)(Mhz): 100; Rating: Catalog; Technology Family: LVC; Voltage(Nom)(V): 1.8,2.5,2.7,3.3; Schmitt Trigger: No; Output Drive (IOL/IOH)(Max)(mA): 24/-24; Output Logic: Inverted,Non-inverted; tpd @ Nom Voltage(Max)(ns): 7.1,4.4,6,5.2; DatasheetVersion: SCAS287T; PackageReference: D0014A; Supplier 1: Digi-Key; Supplier Part Number 1: 296-1240-5-ND; Supplier 2: Farnell; Supplier Part Number 2: 1470816; Supplier 3: Newark; Supplier Part Number 3: 36K7623; Supplier 4: Mouser; Supplier Part Number 4: 595-SN74LVC74AD; Input Type: CMOS; Operating Temperature Range(C): -40 to 125; 3-State Output: No; Code_JEDEC: MS-012; ComponentLink1Description: Manufacturer URL; ComponentLink1URL: http://www.ti.com/; ComponentLink2Description: Datasheet; ComponentLink2URL: http://www.ti.com/lit/ds/symlink/sn74lvc74a.pdf; ComponentLink3Description: Package Specification; ComponentLink3URL: http://www.ti.com/lit/ml/mpds177g/mpds177g.pdf
footprint D0014A_N (SOIC, 14-Leads, Body 8.75x4mm, Pitch 1.27mm, IPC Medium Density)
footprint D0014A_M (SOIC, 14-Leads, Body 8.75x4mm, Pitch 1.27mm, IPC Low Density)
footprint D0014A_L (SOIC, 14-Leads, Body 8.75x4mm, Pitch 1.27mm, IPC High Density)
part A pins: 1 1~{CLR} (in), 2 1D (in), 3 1CLK (in), 4 1~{PRE} (in), 5 1Q (out), 6 1Q (out)
part B pins: 8 2Q (out), 9 2Q (out), 10 2~{PRE} (in), 11 2CLK (in), 12 2D (in), 13 2~{CLR} (in)
part C pins: 7 GND (power), 14 VCC (power)
part A text: PRE; CLR
part B text: PRE; CLR

## SN74LVC74ADBR
designator U?
Dual Positive-Edge-Triggered D-Type Flip-Flops With Clear And Preset, DB0014A, LARGE T&R; Generic Part Number: SN74LVC74A; Manufacturer: Texas Instruments; PartNumber: SN74LVC74ADBR; VCC(Min)(V): 1.65; VCC(Max)(V): 3.6; Output Type: CMOS; ICC @ Nom Voltage(Max)(mA): 0.01; Bits(#): 2; F @ Nom Voltage(Max)(Mhz): 100; Rating: Catalog; Technology Family: LVC; Voltage(Nom)(V): 1.8,2.5,2.7,3.3; Schmitt Trigger: No; Output Drive (IOL/IOH)(Max)(mA): 24/-24; Output Logic: Inverted,Non-inverted; tpd @ Nom Voltage(Max)(ns): 7.1,4.4,6,5.2; DatasheetVersion: SCAS287T; PackageReference: DB0014A; Supplier 1: Digi-Key; Supplier Part Number 1: 296-1239-2-ND; Supplier 2: Digi-Key; Supplier Part Number 2: 296-1239-1-ND; Supplier 3: Digi-Key; Supplier Part Number 3: 296-1239-6-ND; Supplier 4: Newark; Supplier Part Number 4: 76C4330; Supplier 5: Mouser; Supplier Part Number 5: 595-SN74LVC74ADBR; Input Type: CMOS; Operating Temperature Range(C): -40 to 125; 3-State Output: No; Code_JEDEC: MO-150; ComponentLink1Description: Manufacturer URL; ComponentLink1URL: http://www.ti.com/; ComponentLink2Description: Datasheet; ComponentLink2URL: http://www.ti.com/lit/ds/symlink/sn74lvc74a.pdf; ComponentLink3Description: Package Specification; ComponentLink3URL: http://www.ti.com/lit/ml/msso002e/msso002e.pdf
footprint DB0014A_N (SOP, 14-Leads, Body 5.6x6.5mm, Pitch 0.65mm, IPC Medium Density)
footprint DB0014A_M (SOP, 14-Leads, Body 5.6x6.5mm, Pitch 0.65mm, IPC Low Density)
footprint DB0014A_L (SOP, 14-Leads, Body 5.6x6.5mm, Pitch 0.65mm, IPC High Density)
part A pins: 1 1~{CLR} (in), 2 1D (in), 3 1CLK (in), 4 1~{PRE} (in), 5 1Q (out), 6 1Q (out)
part B pins: 8 2Q (out), 9 2Q (out), 10 2~{PRE} (in), 11 2CLK (in), 12 2D (in), 13 2~{CLR} (in)
part C pins: 7 GND (power), 14 VCC (power)
part A text: PRE; CLR
part B text: PRE; CLR

## SN74LVC74ADR
designator U?
Dual Positive-Edge-Triggered D-Type Flip-Flops With Clear And Preset, D0014A, LARGE T&R; Generic Part Number: SN74LVC74A; Manufacturer: Texas Instruments; PartNumber: SN74LVC74ADR; VCC(Min)(V): 1.65; VCC(Max)(V): 3.6; Output Type: CMOS; ICC @ Nom Voltage(Max)(mA): 0.01; Bits(#): 2; F @ Nom Voltage(Max)(Mhz): 100; Rating: Catalog; Technology Family: LVC; Voltage(Nom)(V): 1.8,2.5,2.7,3.3; Schmitt Trigger: No; Output Drive (IOL/IOH)(Max)(mA): 24/-24; Output Logic: Inverted,Non-inverted; tpd @ Nom Voltage(Max)(ns): 7.1,4.4,6,5.2; DatasheetVersion: SCAS287T; PackageReference: D0014A; Supplier 1: Digi-Key; Supplier Part Number 1: 296-1240-2-ND; Supplier 2: Digi-Key; Supplier Part Number 2: 296-1240-1-ND; Supplier 3: Digi-Key; Supplier Part Number 3: 296-1240-6-ND; Supplier 4: Newark; Supplier Part Number 4: 76C4331; Supplier 5: Mouser; Supplier Part Number 5: 595-SN74LVC74ADR; Input Type: CMOS; Operating Temperature Range(C): -40 to 125; 3-State Output: No; Code_JEDEC: MS-012; ComponentLink1Description: Manufacturer URL; ComponentLink1URL: http://www.ti.com/; ComponentLink2Description: Datasheet; ComponentLink2URL: http://www.ti.com/lit/ds/symlink/sn74lvc74a.pdf; ComponentLink3Description: Package Specification; ComponentLink3URL: http://www.ti.com/lit/ml/mpds177g/mpds177g.pdf
footprint D0014A_N (SOIC, 14-Leads, Body 8.75x4mm, Pitch 1.27mm, IPC Medium Density)
footprint D0014A_M (SOIC, 14-Leads, Body 8.75x4mm, Pitch 1.27mm, IPC Low Density)
footprint D0014A_L (SOIC, 14-Leads, Body 8.75x4mm, Pitch 1.27mm, IPC High Density)
part A pins: 1 1~{CLR} (in), 2 1D (in), 3 1CLK (in), 4 1~{PRE} (in), 5 1Q (out), 6 1Q (out)
part B pins: 8 2Q (out), 9 2Q (out), 10 2~{PRE} (in), 11 2CLK (in), 12 2D (in), 13 2~{CLR} (in)
part C pins: 7 GND (power), 14 VCC (power)
part A text: PRE; CLR
part B text: PRE; CLR

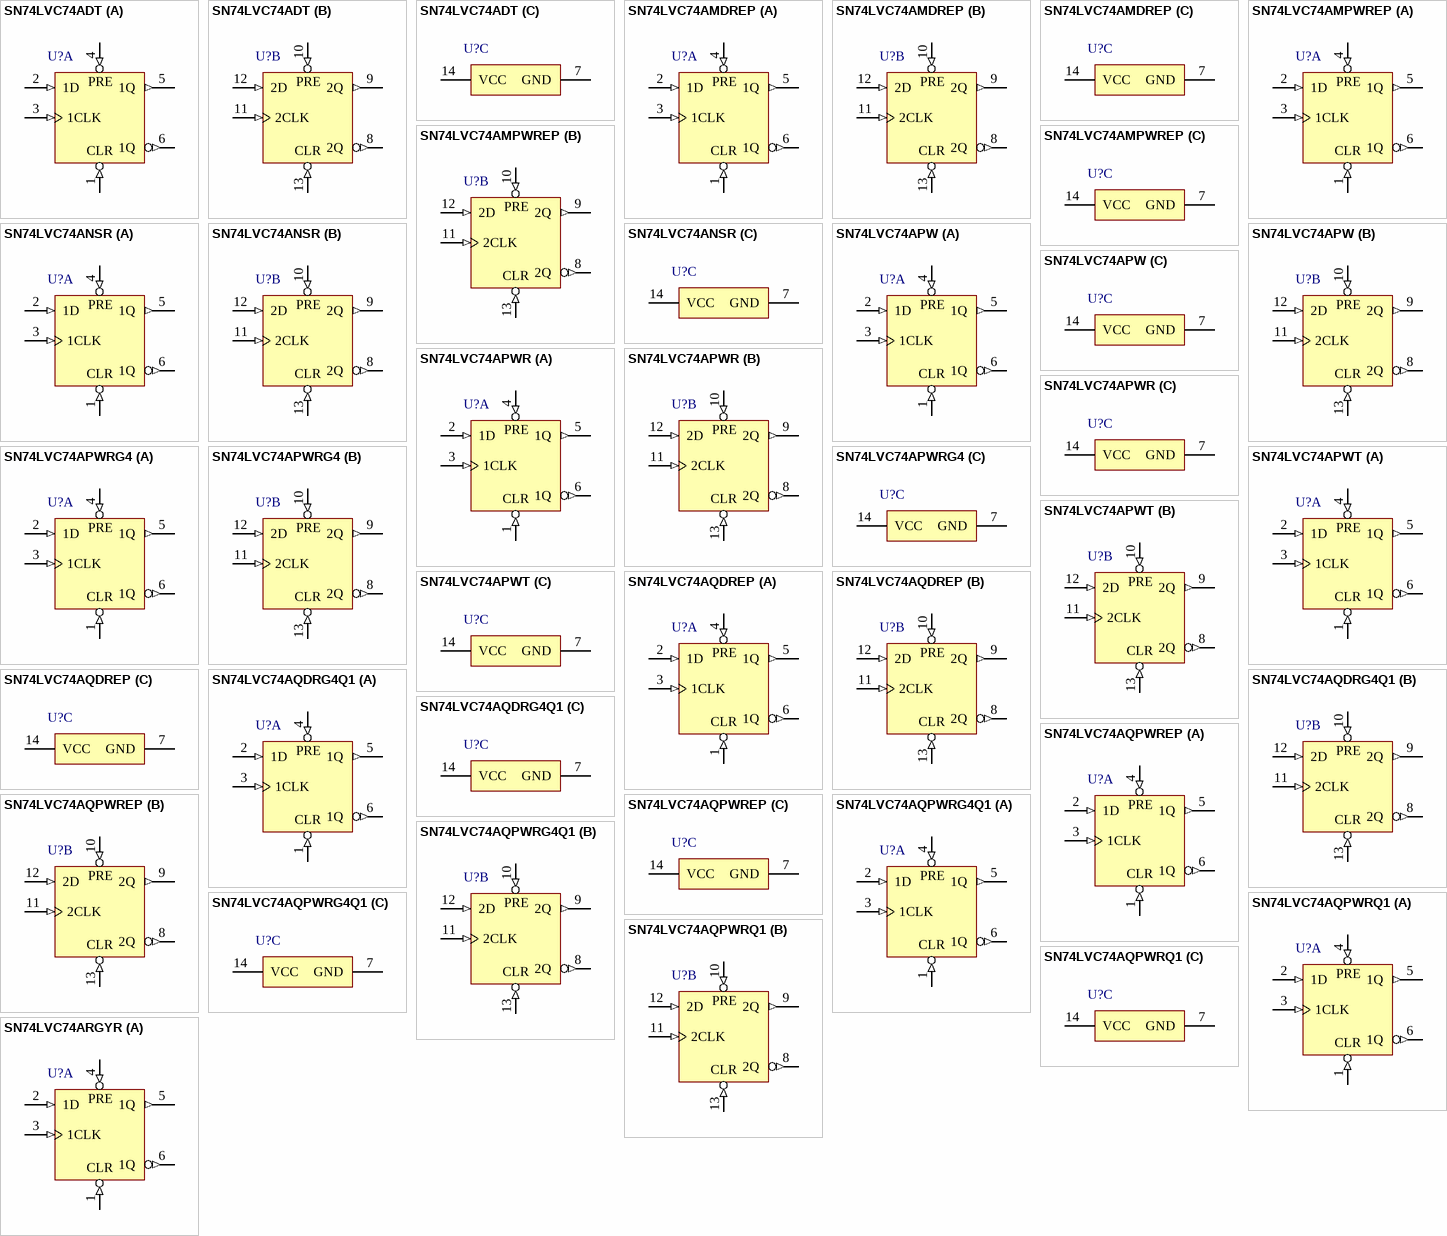
[diagram p103: symbols SN74LVC74ADT to SN74LVC74ARGYR]

## SN74LVC74ADT
designator U?
Dual Positive-Edge-Triggered D-Type Flip-Flops With Clear And Preset, D0014A, SMALL T&R; Generic Part Number: SN74LVC74A; Manufacturer: Texas Instruments; PartNumber: SN74LVC74ADT; VCC(Min)(V): 1.65; VCC(Max)(V): 3.6; Output Type: CMOS; ICC @ Nom Voltage(Max)(mA): 0.01; Bits(#): 2; F @ Nom Voltage(Max)(Mhz): 100; Rating: Catalog; Technology Family: LVC; Voltage(Nom)(V): 1.8,2.5,2.7,3.3; Schmitt Trigger: No; Output Drive (IOL/IOH)(Max)(mA): 24/-24; Output Logic: Inverted,Non-inverted; tpd @ Nom Voltage(Max)(ns): 7.1,4.4,6,5.2; DatasheetVersion: SCAS287T; PackageReference: D0014A; Supplier 1: Digi-Key; Supplier Part Number 1: 296-31922-2-ND; Supplier 2: Digi-Key; Supplier Part Number 2: 296-31922-1-ND; Supplier 3: Digi-Key; Supplier Part Number 3: 296-31922-6-ND; Supplier 4: Farnell; Supplier Part Number 4: 1741134; Supplier 5: Newark; Supplier Part Number 5: 73H4527; Supplier 6: Mouser; Supplier Part Number 6: 595-SN74LVC74ADT; Input Type: CMOS; Operating Temperature Range(C): -40 to 125; 3-State Output: No; Code_JEDEC: MS-012; ComponentLink1Description: Manufacturer URL; ComponentLink1URL: http://www.ti.com/; ComponentLink2Description: Datasheet; ComponentLink2URL: http://www.ti.com/lit/ds/symlink/sn74lvc74a.pdf; ComponentLink3Description: Package Specification; ComponentLink3URL: http://www.ti.com/lit/ml/mpds177g/mpds177g.pdf
footprint D0014A_N (SOIC, 14-Leads, Body 8.75x4mm, Pitch 1.27mm, IPC Medium Density)
footprint D0014A_M (SOIC, 14-Leads, Body 8.75x4mm, Pitch 1.27mm, IPC Low Density)
footprint D0014A_L (SOIC, 14-Leads, Body 8.75x4mm, Pitch 1.27mm, IPC High Density)
part A pins: 1 1~{CLR} (in), 2 1D (in), 3 1CLK (in), 4 1~{PRE} (in), 5 1Q (out), 6 1Q (out)
part B pins: 8 2Q (out), 9 2Q (out), 10 2~{PRE} (in), 11 2CLK (in), 12 2D (in), 13 2~{CLR} (in)
part C pins: 7 GND (power), 14 VCC (power)
part A text: PRE; CLR
part B text: PRE; CLR

## SN74LVC74AMDREP
designator U?
Enhanced Product Dual Positive-Edge-Triggered D-Type Flip-Flops With Clear And Preset, D0014A, LARGE T&R; Generic Part Number: SN74LVC74A-EP; Manufacturer: Texas Instruments; PartNumber: SN74LVC74AMDREP; VCC(Min)(V): 2; VCC(Max)(V): 3.6; Output Type: LVTTL; ICC @ Nom Voltage(Max)(mA): 0.01; Input Type: TTL,CMOS; F @ Nom Voltage(Max)(Mhz): 100; Rating: HiRel Enhanced Product; Technology Family: LVC; Voltage(Nom)(V): 2.7,3.3; Schmitt Trigger: No; Output Drive (IOL/IOH)(Max)(mA): 24/-24; tpd @ Nom Voltage(Max)(ns): 6,5.2; DatasheetVersion: SCAS751C; PackageReference: D0014A; Supplier 1: Digi-Key; Supplier Part Number 1: 296-24246-2-ND; Supplier 2: Digi-Key; Supplier Part Number 2: 296-24246-1-ND; Supplier 3: Digi-Key; Supplier Part Number 3: 296-24246-6-ND; Supplier 4: Newark; Supplier Part Number 4: 79R8431; Supplier 5: Mouser; Supplier Part Number 5: 595-SN74LVC74AMDREP; Bits(#): 2; Operating Temperature Range(C): -40 to 125,-55 to 125; Code_JEDEC: MS-012; ComponentLink1Description: Manufacturer URL; ComponentLink1URL: http://www.ti.com/; ComponentLink2Description: Datasheet; ComponentLink2URL: http://www.ti.com/lit/ds/symlink/sn74lvc74a-ep.pdf; ComponentLink3Description: Package Specification; ComponentLink3URL: http://www.ti.com/lit/ml/mpds177g/mpds177g.pdf
footprint D0014A_N (SOIC, 14-Leads, Body 8.75x4mm, Pitch 1.27mm, IPC Medium Density)
footprint D0014A_M (SOIC, 14-Leads, Body 8.75x4mm, Pitch 1.27mm, IPC Low Density)
footprint D0014A_L (SOIC, 14-Leads, Body 8.75x4mm, Pitch 1.27mm, IPC High Density)
part A pins: 1 1~{CLR} (in), 2 1D (in), 3 1CLK (in), 4 1~{PRE} (in), 5 1Q (out), 6 1Q (out)
part B pins: 8 2Q (out), 9 2Q (out), 10 2~{PRE} (in), 11 2CLK (in), 12 2D (in), 13 2~{CLR} (in)
part C pins: 7 GND (power), 14 VCC (power)
part A text: PRE; CLR
part B text: PRE; CLR

## SN74LVC74AMPWREP
designator U?
Enhanced Product Dual Positive-Edge-Triggered D-Type Flip-Flops With Clear And Preset, PW0014A, LARGE T&R; Generic Part Number: SN74LVC74A-EP; Manufacturer: Texas Instruments; PartNumber: SN74LVC74AMPWREP; VCC(Min)(V): 2; VCC(Max)(V): 3.6; Output Type: LVTTL; ICC @ Nom Voltage(Max)(mA): 0.01; Input Type: TTL,CMOS; F @ Nom Voltage(Max)(Mhz): 100; Rating: HiRel Enhanced Product; Technology Family: LVC; Voltage(Nom)(V): 2.7,3.3; Schmitt Trigger: No; Output Drive (IOL/IOH)(Max)(mA): 24/-24; tpd @ Nom Voltage(Max)(ns): 6,5.2; DatasheetVersion: SCAS751C; PackageReference: PW0014A; Supplier 1: Digi-Key; Supplier Part Number 1: 296-22378-2-ND; Supplier 2: Digi-Key; Supplier Part Number 2: 296-22378-1-ND; Supplier 3: Digi-Key; Supplier Part Number 3: 296-22378-6-ND; Supplier 4: Mouser; Supplier Part Number 4: 595-SN74LVC74AMPWREP; Bits(#): 2; Operating Temperature Range(C): -40 to 125,-55 to 125; Code_JEDEC: MO-153; ComponentLink1Description: Manufacturer URL; ComponentLink1URL: http://www.ti.com/; ComponentLink2Description: Datasheet; ComponentLink2URL: http://www.ti.com/lit/ds/symlink/sn74lvc74a-ep.pdf; ComponentLink3Description: Package Specification; ComponentLink3URL: http://www.ti.com/lit/ml/mpds360/mpds360.pdf
footprint PW0014A_N (SOP, 14-Leads, Body 5.1x4.5mm, Pitch 0.65mm, IPC Medium Density)
footprint PW0014A_M (SOP, 14-Leads, Body 5.1x4.5mm, Pitch 0.65mm, IPC Low Density)
footprint PW0014A_L (SOP, 14-Leads, Body 5.1x4.5mm, Pitch 0.65mm, IPC High Density)
part A pins: 1 1~{CLR} (in), 2 1D (in), 3 1CLK (in), 4 1~{PRE} (in), 5 1Q (out), 6 1Q (out)
part B pins: 8 2Q (out), 9 2Q (out), 10 2~{PRE} (in), 11 2CLK (in), 12 2D (in), 13 2~{CLR} (in)
part C pins: 7 GND (power), 14 VCC (power)
part A text: PRE; CLR
part B text: PRE; CLR

## SN74LVC74ANSR
designator U?
Dual Positive-Edge-Triggered D-Type Flip-Flops With Clear And Preset, NS0014A, LARGE T&R; Generic Part Number: SN74LVC74A; Manufacturer: Texas Instruments; PartNumber: SN74LVC74ANSR; VCC(Min)(V): 1.65; VCC(Max)(V): 3.6; Output Type: CMOS; ICC @ Nom Voltage(Max)(mA): 0.01; Bits(#): 2; F @ Nom Voltage(Max)(Mhz): 100; Rating: Catalog; Technology Family: LVC; Voltage(Nom)(V): 1.8,2.5,2.7,3.3; Schmitt Trigger: No; Output Drive (IOL/IOH)(Max)(mA): 24/-24; Output Logic: Inverted,Non-inverted; tpd @ Nom Voltage(Max)(ns): 7.1,4.4,6,5.2; DatasheetVersion: SCAS287T; PackageReference: NS0014A; Supplier 1: Digi-Key; Supplier Part Number 1: 296-28884-2-ND; Supplier 2: Digi-Key; Supplier Part Number 2: 296-28884-1-ND; Supplier 3: Digi-Key; Supplier Part Number 3: 296-28884-6-ND; Supplier 4: Mouser; Supplier Part Number 4: 595-SN74LVC74ANSR; Input Type: CMOS; Operating Temperature Range(C): -40 to 125; 3-State Output: No; ComponentLink1Description: Manufacturer URL; ComponentLink1URL: http://www.ti.com/; ComponentLink2Description: Datasheet; ComponentLink2URL: http://www.ti.com/lit/ds/symlink/sn74lvc74a.pdf; ComponentLink3Description: Package Specification; ComponentLink3URL: http://www.ti.com/lit/ml/msop002a/msop002a.pdf
footprint NS0014A_N (SOIC,14-Leads,Body 10.5x5.6mm,Pitch 1.27mm,IPC Medium Density)
footprint NS0014A_M (SOIC,14-Leads,Body 10.5x5.6mm,Pitch 1.27mm,IPC Low Density)
footprint NS0014A_L (SOIC,14-Leads,Body 10.5x5.6mm,Pitch 0.4mm,IPC High Density)
part A pins: 1 1~{CLR} (in), 2 1D (in), 3 1CLK (in), 4 1~{PRE} (in), 5 1Q (out), 6 1Q (out)
part B pins: 8 2Q (out), 9 2Q (out), 10 2~{PRE} (in), 11 2CLK (in), 12 2D (in), 13 2~{CLR} (in)
part C pins: 7 GND (power), 14 VCC (power)
part A text: PRE; CLR
part B text: PRE; CLR

## SN74LVC74APW
designator U?
Dual Positive-Edge-Triggered D-Type Flip-Flops With Clear And Preset, PW0014A, TUBE; Generic Part Number: SN74LVC74A; Manufacturer: Texas Instruments; PartNumber: SN74LVC74APW; VCC(Min)(V): 1.65; VCC(Max)(V): 3.6; Output Type: CMOS; ICC @ Nom Voltage(Max)(mA): 0.01; Bits(#): 2; F @ Nom Voltage(Max)(Mhz): 100; Rating: Catalog; Technology Family: LVC; Voltage(Nom)(V): 1.8,2.5,2.7,3.3; Schmitt Trigger: No; Output Drive (IOL/IOH)(Max)(mA): 24/-24; Output Logic: Inverted,Non-inverted; tpd @ Nom Voltage(Max)(ns): 7.1,4.4,6,5.2; DatasheetVersion: SCAS287T; PackageReference: PW0014A; Supplier 1: Digi-Key; Supplier Part Number 1: 296-26631-5-ND; Supplier 2: Farnell; Supplier Part Number 2: 9592822; Supplier 3: Newark; Supplier Part Number 3: 98K0494; Supplier 4: Mouser; Supplier Part Number 4: 595-SN74LVC74APW; Input Type: CMOS; Operating Temperature Range(C): -40 to 125; 3-State Output: No; Code_JEDEC: MO-153; ComponentLink1Description: Manufacturer URL; ComponentLink1URL: http://www.ti.com/; ComponentLink2Description: Datasheet; ComponentLink2URL: http://www.ti.com/lit/ds/symlink/sn74lvc74a.pdf; ComponentLink3Description: Package Specification; ComponentLink3URL: http://www.ti.com/lit/ml/mpds360/mpds360.pdf
footprint PW0014A_N (SOP, 14-Leads, Body 5.1x4.5mm, Pitch 0.65mm, IPC Medium Density)
footprint PW0014A_M (SOP, 14-Leads, Body 5.1x4.5mm, Pitch 0.65mm, IPC Low Density)
footprint PW0014A_L (SOP, 14-Leads, Body 5.1x4.5mm, Pitch 0.65mm, IPC High Density)
part A pins: 1 1~{CLR} (in), 2 1D (in), 3 1CLK (in), 4 1~{PRE} (in), 5 1Q (out), 6 1Q (out)
part B pins: 8 2Q (out), 9 2Q (out), 10 2~{PRE} (in), 11 2CLK (in), 12 2D (in), 13 2~{CLR} (in)
part C pins: 7 GND (power), 14 VCC (power)
part A text: PRE; CLR
part B text: PRE; CLR

## SN74LVC74APWR
designator U?
Dual Positive-Edge-Triggered D-Type Flip-Flops With Clear And Preset, PW0014A, LARGE T&R; Generic Part Number: SN74LVC74A; Manufacturer: Texas Instruments; PartNumber: SN74LVC74APWR; VCC(Min)(V): 1.65; VCC(Max)(V): 3.6; Output Type: CMOS; ICC @ Nom Voltage(Max)(mA): 0.01; Bits(#): 2; F @ Nom Voltage(Max)(Mhz): 100; Rating: Catalog; Technology Family: LVC; Voltage(Nom)(V): 1.8,2.5,2.7,3.3; Schmitt Trigger: No; Output Drive (IOL/IOH)(Max)(mA): 24/-24; Output Logic: Inverted,Non-inverted; tpd @ Nom Voltage(Max)(ns): 7.1,4.4,6,5.2; DatasheetVersion: SCAS287T; PackageReference: PW0014A; Supplier 1: Digi-Key; Supplier Part Number 1: 296-1241-2-ND; Supplier 2: Digi-Key; Supplier Part Number 2: 296-1241-1-ND; Supplier 3: Digi-Key; Supplier Part Number 3: 296-1241-6-ND; Supplier 4: Farnell; Supplier Part Number 4: 2437278; Supplier 5: Newark; Supplier Part Number 5: 22C8632; Supplier 6: Mouser; Supplier Part Number 6: 595-SN74LVC74APWR; Input Type: CMOS; Operating Temperature Range(C): -40 to 125; 3-State Output: No; Code_JEDEC: MO-153; ComponentLink1Description: Manufacturer URL; ComponentLink1URL: http://www.ti.com/; ComponentLink2Description: Datasheet; ComponentLink2URL: http://www.ti.com/lit/ds/symlink/sn74lvc74a.pdf; ComponentLink3Description: Package Specification; ComponentLink3URL: http://www.ti.com/lit/ml/mpds360/mpds360.pdf
footprint PW0014A_N (SOP, 14-Leads, Body 5.1x4.5mm, Pitch 0.65mm, IPC Medium Density)
footprint PW0014A_M (SOP, 14-Leads, Body 5.1x4.5mm, Pitch 0.65mm, IPC Low Density)
footprint PW0014A_L (SOP, 14-Leads, Body 5.1x4.5mm, Pitch 0.65mm, IPC High Density)
part A pins: 1 1~{CLR} (in), 2 1D (in), 3 1CLK (in), 4 1~{PRE} (in), 5 1Q (out), 6 1Q (out)
part B pins: 8 2Q (out), 9 2Q (out), 10 2~{PRE} (in), 11 2CLK (in), 12 2D (in), 13 2~{CLR} (in)
part C pins: 7 GND (power), 14 VCC (power)
part A text: PRE; CLR
part B text: PRE; CLR

## SN74LVC74APWRG4
designator U?
Dual Positive-Edge-Triggered D-Type Flip-Flops With Clear And Preset, PW0014A, LARGE T&R; Generic Part Number: SN74LVC74A; Manufacturer: Texas Instruments; PartNumber: SN74LVC74APWRG4; VCC(Min)(V): 1.65; VCC(Max)(V): 3.6; Output Type: CMOS; ICC @ Nom Voltage(Max)(mA): 0.01; Bits(#): 2; F @ Nom Voltage(Max)(Mhz): 100; Rating: Catalog; Technology Family: LVC; Voltage(Nom)(V): 1.8,2.5,2.7,3.3; Schmitt Trigger: No; Output Drive (IOL/IOH)(Max)(mA): 24/-24; Output Logic: Inverted,Non-inverted; tpd @ Nom Voltage(Max)(ns): 7.1,4.4,6,5.2; DatasheetVersion: SCAS287T; PackageReference: PW0014A; Supplier 1: Digi-Key; Supplier Part Number 1: 296-41652-2-ND; Supplier 2: Digi-Key; Supplier Part Number 2: 296-41652-1-ND; Supplier 3: Digi-Key; Supplier Part Number 3: 296-41652-6-ND; Supplier 4: Newark; Supplier Part Number 4: 40K9315; Supplier 5: Mouser; Supplier Part Number 5: 595-SN74LVC74APWRG4; Input Type: CMOS; Operating Temperature Range(C): -40 to 125; 3-State Output: No; Code_JEDEC: MO-153; ComponentLink1Description: Manufacturer URL; ComponentLink1URL: http://www.ti.com/; ComponentLink2Description: Datasheet; ComponentLink2URL: http://www.ti.com/lit/ds/symlink/sn74lvc74a.pdf; ComponentLink3Description: Package Specification; ComponentLink3URL: http://www.ti.com/lit/ml/mpds360/mpds360.pdf
footprint PW0014A_N (SOP, 14-Leads, Body 5.1x4.5mm, Pitch 0.65mm, IPC Medium Density)
footprint PW0014A_M (SOP, 14-Leads, Body 5.1x4.5mm, Pitch 0.65mm, IPC Low Density)
footprint PW0014A_L (SOP, 14-Leads, Body 5.1x4.5mm, Pitch 0.65mm, IPC High Density)
part A pins: 1 1~{CLR} (in), 2 1D (in), 3 1CLK (in), 4 1~{PRE} (in), 5 1Q (out), 6 1Q (out)
part B pins: 8 2Q (out), 9 2Q (out), 10 2~{PRE} (in), 11 2CLK (in), 12 2D (in), 13 2~{CLR} (in)
part C pins: 7 GND (power), 14 VCC (power)
part A text: PRE; CLR
part B text: PRE; CLR

## SN74LVC74APWT
designator U?
Dual Positive-Edge-Triggered D-Type Flip-Flops With Clear And Preset, PW0014A, SMALL T&R; Generic Part Number: SN74LVC74A; Manufacturer: Texas Instruments; PartNumber: SN74LVC74APWT; VCC(Min)(V): 1.65; VCC(Max)(V): 3.6; Output Type: CMOS; ICC @ Nom Voltage(Max)(mA): 0.01; Bits(#): 2; F @ Nom Voltage(Max)(Mhz): 100; Rating: Catalog; Technology Family: LVC; Voltage(Nom)(V): 1.8,2.5,2.7,3.3; Schmitt Trigger: No; Output Drive (IOL/IOH)(Max)(mA): 24/-24; Output Logic: Inverted,Non-inverted; tpd @ Nom Voltage(Max)(ns): 7.1,4.4,6,5.2; DatasheetVersion: SCAS287T; PackageReference: PW0014A; Supplier 1: Digi-Key; Supplier Part Number 1: 296-31923-2-ND; Supplier 2: Digi-Key; Supplier Part Number 2: 296-31923-1-ND; Supplier 3: Digi-Key; Supplier Part Number 3: 296-31923-6-ND; Supplier 4: Farnell; Supplier Part Number 4: 1741133; Supplier 5: Newark; Supplier Part Number 5: 73H4528; Supplier 6: Mouser; Supplier Part Number 6: 595-SN74LVC74APWT; Input Type: CMOS; Operating Temperature Range(C): -40 to 125; 3-State Output: No; Code_JEDEC: MO-153; ComponentLink1Description: Manufacturer URL; ComponentLink1URL: http://www.ti.com/; ComponentLink2Description: Datasheet; ComponentLink2URL: http://www.ti.com/lit/ds/symlink/sn74lvc74a.pdf; ComponentLink3Description: Package Specification; ComponentLink3URL: http://www.ti.com/lit/ml/mpds360/mpds360.pdf
footprint PW0014A_N (SOP, 14-Leads, Body 5.1x4.5mm, Pitch 0.65mm, IPC Medium Density)
footprint PW0014A_M (SOP, 14-Leads, Body 5.1x4.5mm, Pitch 0.65mm, IPC Low Density)
footprint PW0014A_L (SOP, 14-Leads, Body 5.1x4.5mm, Pitch 0.65mm, IPC High Density)
part A pins: 1 1~{CLR} (in), 2 1D (in), 3 1CLK (in), 4 1~{PRE} (in), 5 1Q (out), 6 1Q (out)
part B pins: 8 2Q (out), 9 2Q (out), 10 2~{PRE} (in), 11 2CLK (in), 12 2D (in), 13 2~{CLR} (in)
part C pins: 7 GND (power), 14 VCC (power)
part A text: PRE; CLR
part B text: PRE; CLR